# Altium footprint library axsem_production_v1-8.PCBLIB: 22 footprints (part 2 of 2)
Each footprint in its own frame and in the unit in brackets; x right, y up, seen from the top. Pads: shape width x height; smd on the part's side, far side on the other; paste and mask are expansions set on the pad; w line width, h text height; cw(c..) or ccw(c..) is an arc to the next point about the centre after c.
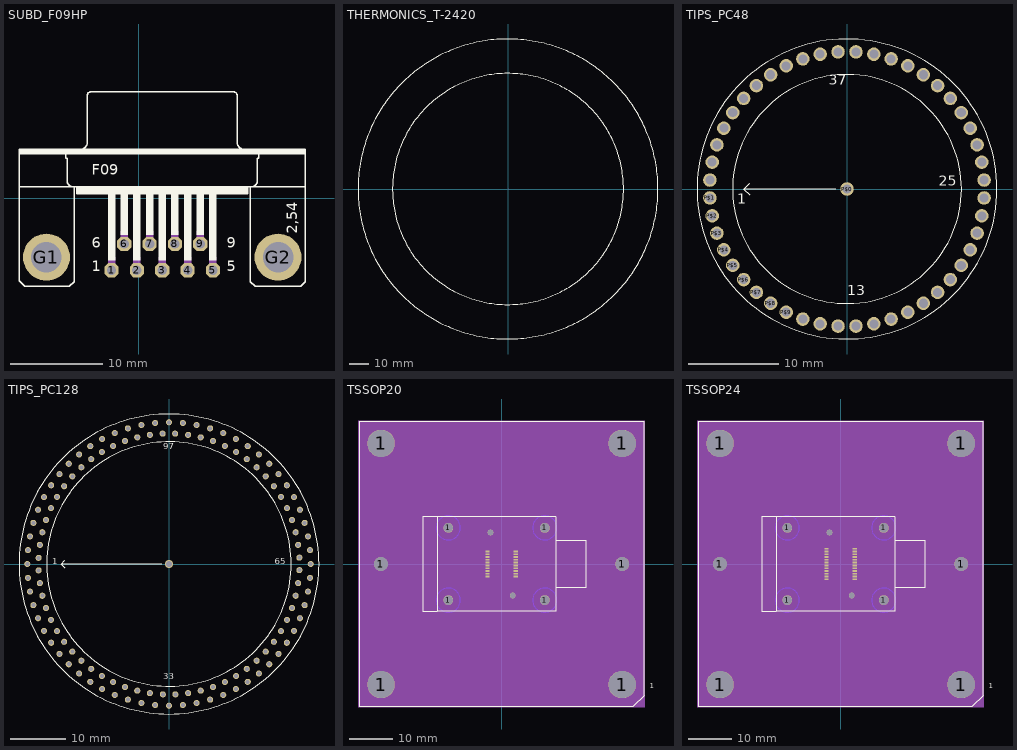
[diagram p1: the footprints below, top view; thin cyan lines are the x and y axes]

## SUBD_F09HP [mil]
pads (11):
  oct 60x60 hole 40: 1(-116,-306) 2(-8,-306) 3(100,-306) 4(208,-306) 5(316,-306) 6(-62,-194) 7(46,-194) 8(154,-194) 9(262,-194)
  round 200 hole 130: G1(-393,-250) G2(593,-250)
Top Overlay:
  circle w6: c-393,-250 r65
  circle w6: c593,-250 r65
  rectangle: -265,20 465,50
  rectangle: -510,190 710,210
  rectangle: -132,-265 -100,20
  rectangle: -78,-155 -46,20
  rectangle: -24,-265 8,20
  rectangle: 30,-155 62,20
  rectangle: 84,-265 116,20
  rectangle: 138,-155 170,20
  rectangle: 192,-265 224,20
  rectangle: 246,-155 278,20
  rectangle: 300,-265 332,20
  lines w6: -280,50 cw(c-280,75) -305,75 -305,170 -310,170 -310,190 ; -245,210 ccw(c-245,235) -220,235 -220,435 cw(c-200,435) -200,455 400,455 cw(c400,435) 420,435 420,235 ccw(c445,235) 445,210 ; 480,50 ccw(c480,75) 505,75 505,170 510,170 510,190 ; -510,50 -510,190 ; -510,50 -275,50 ; -510,50 -510,-350 -485,-375 -295,-375 -275,-355 -275,50 ; -510,190 -510,210 710,210 710,190 ; -510,190 -310,190 ; -310,190 510,190 ; -275,50 -265,50 ; -265,50 -265,20 465,20 465,50 ; -265,50 465,50 ; 465,50 475,50 ; 475,50 475,-355 495,-375 690,-375 710,-355 710,50 ; 475,50 710,50 ; 510,190 710,190 ; 710,50 710,190
  text "1" at -200,-325 h77.5
  text "5" at 375,-325 h77.5
  text "9" at 375,-225 h77.5
  text "6" at -200,-225 h77.5
  text "2,54" at 690,-150 h77.5
  text "F09" at -200,85 h77.5
Mechanical 16:
  lines w32: -116,-306 -116,-255 ; -62,-194 -62,-145 ; -8,-306 -8,-255 ; 46,-194 46,-145 ; 100,-306 100,-255 ; 154,-194 154,-145 ; 208,-306 208,-255 ; 262,-194 262,-145 ; 316,-306 316,-255

## THERMONICS_T-2420 [mil]
Top Overlay:
  circle w7.87: c0,0 r2350.39
  circle w7.87: c0,0 r3051.18
Mechanical 27:
  region: 0,0 10,0 10,10 0,10

## TIPS_PC48 [mm]
pads (49):
  round 1.5 hole 1: P$0(0,0) P$1(-15.207,-0.996) P$2(-14.948,-2.974) P$3(-14.432,-4.9) P$4(-13.668,-6.741) P$5(-12.672,-8.466) P$6(-11.458,-10.048) P$7(-10.048,-11.458) P$8(-8.466,-12.672) P$9(-6.741,-13.668) P$10(-4.9,-14.432) P$11(-2.974,-14.948) P$12(-0.996,-15.207) P$13(0.996,-15.207) P$14(2.974,-14.948) P$15(4.9,-14.432) P$16(6.741,-13.668) P$17(8.466,-12.672) P$18(10.048,-11.458) P$19(11.458,-10.048) P$20(12.672,-8.466) P$21(13.668,-6.741) P$22(14.432,-4.9) P$23(14.948,-2.974) P$24(15.207,-0.996) P$25(15.207,0.996) P$26(14.948,2.974) P$27(14.432,4.9) P$28(13.668,6.741) P$29(12.672,8.466) P$30(11.458,10.048) P$31(10.048,11.458) P$32(8.466,12.672) P$33(6.741,13.668) P$34(4.9,14.432) P$35(2.974,14.948) P$36(0.996,15.207) P$37(-0.996,15.207) P$38(-2.974,14.948) P$39(-4.9,14.432) P$40(-6.741,13.668) P$41(-8.466,12.672) P$42(-10.048,11.458) P$43(-11.458,10.048) P$44(-12.672,8.466) P$45(-13.668,6.741) P$46(-14.432,4.9) P$47(-14.948,2.974) P$48(-15.207,0.996)
Top Layer keep-out:
  region: 0,0 0.254,0 0.254,0.254 0,0.254
  region: 0,0 0.254,0 0.254,0.254 0,0.254
Top Overlay:
  circle w0.127: c0,0 r12.7
  circle w0.127: c0,0 r16.637
  lines w0.127: -10.795,-0.635 -11.43,0 ; -10.795,0.635 -11.43,0 ; -1.27,0 -11.43,0
  text "1" at -12.192,-2.032 h1.97
  text "13" at 0,-12.192 h1.97
  text "25" at 10.16,0 h1.97
  text "37" at -2.032,11.176 h1.97
Mechanical 27:
  region: 0,0 0.254,0 0.254,0.254 0,0.254

## TIPS_PC128 [mm]
pads (129):
  round 1.5 hole 1: P$0(0,0)
  round 1.1 hole 0.72: P$1(-25.51,0) P$2(-23.47,-1.15) P$3(-25.39,-2.5) P$4(-23.24,-3.45) P$5(-25.02,-4.98) P$6(-22.8,-5.71) P$7(-24.41,-7.41) P$8(-22.13,-7.92) P$9(-23.57,-9.76) P$10(-21.24,-10.05) P$11(-22.5,-12.03) P$12(-20.16,-12.08) P$13(-21.21,-14.17) P$14(-18.88,-14) P$15(-19.72,-16.18) P$16(-17.41,-15.78) P$17(-18.04,-18.04) P$18(-15.78,-17.41) P$19(-16.18,-19.72) P$20(-14,-18.88) P$21(-14.17,-21.21) P$22(-12.08,-20.16) P$23(-12.03,-22.5) P$24(-10.05,-21.24) P$25(-9.76,-23.57) P$26(-7.92,-22.13) P$27(-7.41,-24.41) P$28(-5.71,-22.8) P$29(-4.98,-25.02) P$30(-3.45,-23.25) P$31(-2.5,-25.39) P$32(-1.1,-23.47) P$33(0,-25.51) P$34(1.15,-23.47) P$35(2.5,-25.39) P$36(3.45,-23.24) P$37(4.98,-25.02) P$38(5.71,-22.8) P$39(7.41,-24.41) P$40(7.92,-22.13) P$41(9.76,-23.57) P$42(10.05,-21.24) P$43(12.03,-22.5) P$44(12.08,-20.16) P$45(14.17,-21.21) P$46(14,-18.88) P$47(16.18,-19.72) P$48(15.78,-17.41) P$49(18.04,-18.04) P$50(17.41,-15.78) P$51(19.72,-16.18) P$52(18.88,-14) P$53(21.21,-14.17) P$54(20.16,-12.08) P$55(22.5,-12.03) P$56(21.24,-10.05) P$57(23.57,-9.76) P$58(22.13,-7.92) P$59(24.41,-7.41) P$60(22.8,-5.71) P$61(25.02,-4.98) P$62(23.25,-3.45) P$63(25.39,-2.5) P$64(23.47,-1.1) P$65(25.51,0) P$66(23.47,1.15) P$67(25.39,2.5) P$68(23.24,3.45) P$69(25.02,4.98) P$70(22.8,5.71) P$71(24.41,7.41) P$72(22.13,7.92) P$73(23.57,9.76) P$74(21.24,10.05) P$75(22.5,12.03) P$76(20.16,12.08) P$77(21.21,14.17) P$78(18.88,14) P$79(19.72,16.18) P$80(17.41,15.78) P$81(18.04,18.04) P$82(15.78,17.41) P$83(16.18,19.72) P$84(14,18.88) P$85(14.17,21.21) P$86(12.08,20.16) P$87(12.03,22.5) P$88(10.05,21.24) P$89(9.76,23.57) P$90(7.92,22.13) P$91(7.41,24.41) P$92(5.71,22.8) P$93(4.98,25.02) P$94(3.45,23.25) P$95(2.5,25.39) P$96(1.1,23.47) P$97(0,25.51) P$98(-1.15,23.47) P$99(-2.5,25.39) P$100(-3.45,23.24) P$101(-4.98,25.02) P$102(-5.71,22.8) P$103(-7.41,24.41) P$104(-7.92,22.13) P$105(-9.76,23.57) P$106(-10.05,21.24) P$107(-12.03,22.5) P$108(-12.08,20.16) P$109(-14.17,21.21) P$110(-14,18.88) P$111(-16.18,19.72) P$112(-15.78,17.41) P$113(-18.04,18.04) P$114(-17.41,15.78) P$115(-19.72,16.18) P$116(-18.88,14) P$117(-21.21,14.17) P$118(-20.16,12.08) P$119(-22.5,12.03) P$120(-21.24,10.05) P$121(-23.57,9.76) P$122(-22.13,7.92) P$123(-24.41,7.41) P$124(-22.8,5.71) P$125(-25.02,4.98) P$126(-23.25,3.45) P$127(-25.39,2.5) P$128(-23.47,1.1)
Top Overlay:
  circle w0.127: c0,0 r22
  circle w0.127: c0,0 r27
  lines w0.127: -18.795,-0.635 -19.43,0 ; -18.795,0.635 -19.43,0 ; -1.27,0 -19.43,0
  text "1" at -21,-0.5 h1.97
  text "33" at -1,-21.192 h1.97
  text "97" at -1.032,20.176 h1.97
  text "65" at 19,-0.5 h1.97
Mechanical 27:
  region: 0,0 0.254,0 0.254,0.254 0,0.254

## TSSOP20 [mil]
pads (32):
  round 125.98 hole 125.98: 1(-1101.5,0) 1(1101.5,0)
  round 250 hole 250: 1(-1100,-1100) 1(-1100,1100) 1(1100,-1100) 1(1100,1100)
  round 89 hole 89: 1(-486,-330) 1(-486,330) 1(394,-330) 1(394,330)
  round 51 hole 51: 1(-101,287.5) 1(101,-287.5)
  rect 40x16 smd: P$1(127.95,-115.16) P$2(127.95,-89.57) P$3(127.95,-63.98) P$4(127.95,-38.39) P$5(127.95,-12.8) P$6(127.95,12.8) P$7(127.95,38.39) P$8(127.95,63.98) P$9(127.95,89.57) P$10(127.95,115.16) P$11(-127.95,115.16) P$12(-127.95,89.57) P$13(-127.95,63.98) P$14(-127.95,38.39) P$15(-127.95,12.8) P$16(-127.95,-12.8) P$17(-127.95,-38.39) P$18(-127.95,-63.98) P$19(-127.95,-89.57) P$20(-127.95,-115.16)
Bottom Layer keep-out:
  circle w5: c-486,330 r110.24
  circle w5: c-486,-330 r110.24
  circle w5: c394,-330 r110.24
  circle w5: c394,330 r110.24
Top Overlay:
  lines w5: -586,-430 -586,430 ; -586,-430 494,-430 494,-215 ; -586,-430 -721,-430 -721,430 -586,430 ; -586,430 494,430 494,215 ; 494,-215 494,215 ; 494,-215 769,-215 769,215 494,215 ; -1300,-1300 1200,-1300 1300,-1200 1300,1300 -1300,1300 -1300,-1300
  text "1" at 1350,-1150 h77.5
Top Solder:
  rectangle: -586,-430 494,430
Mechanical 27:
  rectangle: -1310,-1310 1310,1310
Mechanical 28:
  circle w5: c-486,330 r157.48
  circle w5: c-486,-330 r157.48
  circle w5: c394,-330 r157.48
  circle w5: c394,330 r157.48

## TSSOP24 [mil]
pads (36):
  round 125.98 hole 125.98: 1(-1101.5,0) 1(1101.5,0)
  round 250 hole 250: 1(-1100,-1100) 1(-1100,1100) 1(1100,-1100) 1(1100,1100)
  round 89 hole 89: 1(-486,-330) 1(-486,330) 1(394,-330) 1(394,330)
  round 51 hole 51: 1(-101,287.5) 1(101,-287.5)
  rect 40x16 smd: P$1(127.95,-140.16) P$2(127.95,-115.16) P$3(127.95,-89.57) P$4(127.95,-63.98) P$5(127.95,-38.39) P$6(127.95,-12.8) P$7(127.95,12.8) P$8(127.95,38.39) P$9(127.95,63.98) P$10(127.95,89.57) P$11(127.95,115.16) P$12(127.95,140.16) P$13(-127.95,140.16) P$14(-127.95,115.16) P$15(-127.95,89.57) P$16(-127.95,63.98) P$17(-127.95,38.39) P$18(-127.95,12.8) P$19(-127.95,-12.8) P$20(-127.95,-38.39) P$21(-127.95,-63.98) P$22(-127.95,-89.57) P$23(-127.95,-115.16) P$24(-127.95,-140.16)
Bottom Layer keep-out:
  circle w5: c-486,330 r110.24
  circle w5: c394,330 r110.24
  circle w5: c394,-330 r110.24
  circle w5: c-486,-330 r110.24
Top Overlay:
  lines w5: -586,-430 -586,430 ; -586,-430 494,-430 494,-215 ; -586,-430 -721,-430 -721,430 -586,430 ; -586,430 494,430 494,215 ; 494,-215 494,215 ; 494,-215 769,-215 769,215 494,215 ; -1300,-1300 1200,-1300 1300,-1200 1300,1300 -1300,1300 -1300,-1300
  text "1" at 1350,-1150 h77.5
Top Solder:
  rectangle: -586,-430 494,430
Mechanical 27:
  rectangle: -1310,-1310 1310,1310
Mechanical 28:
  circle w5: c-486,330 r157.48
  circle w5: c394,330 r157.48
  circle w5: c394,-330 r157.48
  circle w5: c-486,-330 r157.48